# EAGLE library part LOGIC-GATE-NAND-X4 (library FlashPCB_ICs)
LOGIC-GATE-NAND-X4 -Generic Logic NAND Gate x4 Technical Specifications: Pin7: GND Pin14: VDD Component Search: MC14093BDTR2G <https://www.flashpcb.com/components> Datasheet: MC14093B Quad 2-Input “NAND" Schmitt Trigger <https://www.onsemi.com/pdf/datasheet/mc14093b-d.pdf>
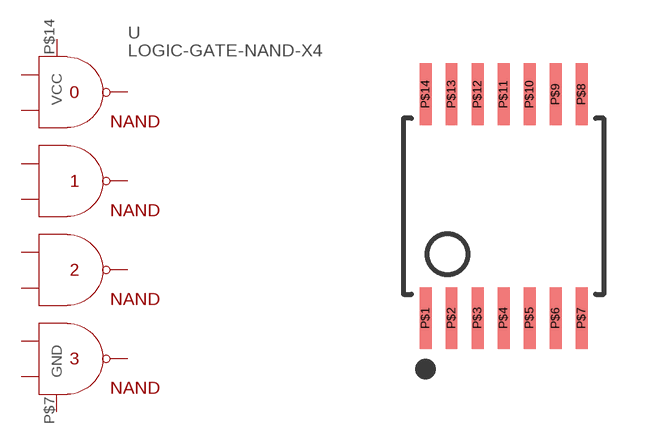
[diagram p56: symbol with the pads of 14-TSSOP(4.4MMX5.0MM); footprint 14-TSSOP(4.4MMX5.0MM)]

Designator prefix U

## LOGIC-GATE-NAND-X414-TSSOP  [14-TSSOP(4.4MMX5.0MM)]
P$1  A0
P$2  B0
P$3  Y0
P$4  Y1
P$5  A1
P$6  B1
P$7  GND
P$8  A2
P$9  B2
P$10  Y2
P$11  Y3
P$12  A3
P$13  B3
P$14  VCC

## Footprint 14-TSSOP(4.4MMX5.0MM) (pad centres in mm)
smd 0.3 x 1.55: P$1 -1.95,-2.8; P$2 -1.3,-2.8; P$3 -0.65,-2.8; P$4 0,-2.8; P$5 0.65,-2.8; P$6 1.3,-2.8; P$7 1.95,-2.8; P$8 1.95,2.8; P$9 1.3,2.8; P$10 0.65,2.8; P$11 0,2.8; P$12 -0.65,2.8; P$13 -1.3,2.8; P$14 -1.95,2.8